# Altium footprint library PcbLib2.PcbLib: 8 footprints
Each footprint in its own frame and in the unit in brackets; x right, y up, seen from the top. Pads: shape width x height; smd on the part's side, far side on the other; paste and mask are expansions set on the pad; w line width, h text height; cw(c..) or ccw(c..) is an arc to the next point about the centre after c.
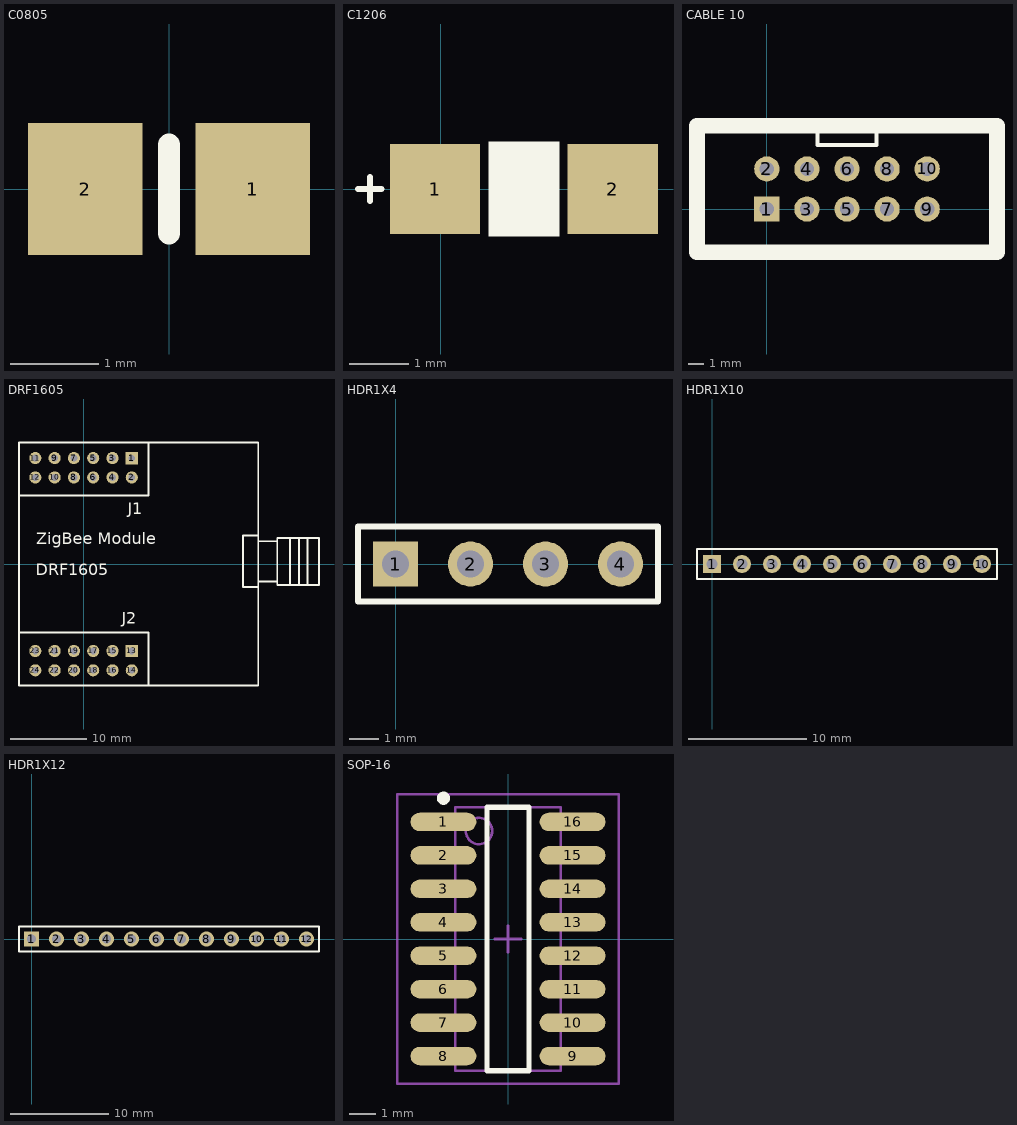
[diagram p0: the footprints below, top view; thin cyan lines are the x and y axes]

## C0805 [mm] "Chip Capacitor; Body 2.0 x 1.2 mm (LxW typ)"
height 1.1
pads (2):
  rect 1.3x1.5 smd: 1(0.95,0) 2(-0.95,0)
Top Overlay:
  lines w0.254: 0,-0.5 0,0.5
3D body "SW3dPS-0805 SMD Capacitor.STEP": height 0.78, standoff 0, extent -1.016,-0.635 0.984,0.615

## C1206 [mil]
pads (2):
  rect 60x60 smd: 1(-3.93,0) 2(114.18,0)
Top Overlay:
  rectangle: 31.49,-31.5 78.74,31.5
  lines w3.94: -55.12,0 -39.37,0 ; -47.19,-7.87 -47.19,7.87
3D body "cap_a.step": height 63.39, standoff 0, extent -7.69,-31.5 117.93,31.5

## CABLE 10 [mm] "Connector; Header; 5x2 Position"
pads (10):
  rect 1.6x1.6 hole 0.9: 1(0,0)
  round 1.6 hole 0.9: 2(0,2.54) 3(2.54,0) 4(2.54,2.54) 5(5.08,0) 6(5.08,2.54) 7(7.62,0) 8(7.62,2.54) 9(10.16,0) 10(10.16,2.54)
Top Overlay:
  lines w0.254: 3.226,5.27 3.226,4.064 5.08,4.064 6.934,4.064 6.934,5.27
  lines w1: -4.42,-2.73 -4.42,5.27 14.58,5.27 14.58,-2.73 -4.42,-2.73
3D body "User Library-Tyco - 5103308-1 (Shrouded Header 2_54mm 10 Pin).step": height 9.86, standoff -3.05, extent -5.08,-3.302 15.24,5.842

## DRF1605 [mm]
pads (24):
  rect 1.6x1.6 hole 0.9: 1(6.35,13.95) 13(6.35,-11.425)
  round 1.6 hole 0.9: 2(6.35,11.425) 3(3.81,13.975) 4(3.81,11.425) 5(1.27,13.975) 6(1.27,11.425) 7(-1.27,13.975) 8(-1.27,11.425) 9(-3.81,13.975) 10(-3.81,11.425) 11(-6.35,13.975) 12(-6.35,11.425) 14(6.35,-13.975) 15(3.81,-11.425) 16(3.81,-13.975) 17(1.27,-11.425) 18(1.27,-13.975) 19(-1.27,-11.425) 20(-1.27,-13.975) 21(-3.81,-11.425) 22(-3.81,-13.975) 23(-6.35,-11.425) 24(-6.35,-13.975)
Top Overlay:
  lines w0.254: -8.5,-8.975 8.525,-8.975 8.525,-15.975 ; -8.5,9.025 8.525,9.025 8.525,16.025 ; 23,-3.025 21,-3.025 21,3.775 23,3.775 ; 27.175,3.475 27.175,-2.7 27.2,-2.725 ; 28.375,3.475 28.375,-2.7 28.4,-2.725 ; 29.5,-2.725 29.5,3.475 ; -8.5,-15.975 23,-15.975 23,16.025 -8.5,16.025 -8.5,-15.975 ; 23,-2.275 23,3.025 25.5,3.025 25.5,-2.275 23,-2.275 ; 25.5,-2.725 25.5,3.475 31,3.475 31,-2.725 25.5,-2.725
  text "J1" at 5.825,6.575 h1.52
  text "J2" at 5,-7.85 h1.52
  text "ZigBee Module" at -6.25,2.65 h1.52
  text "DRF1605" at -6.325,-1.425 h1.52
3D body "User Library-DS1023-2x3S01.STEP": height 8.5, standoff -3, extent -0.25,-15.24 7.87,-10.16
3D body "User Library-DS1023-2x3S01.STEP": height 8.5, standoff -3, extent -7.87,-15.24 0.25,-10.16
3D body "User Library-DS1023-2x3S01.STEP": height 8.5, standoff -3, extent -7.866,10.16 0.254,15.24
3D body "User Library-DS1023-2x3S01.STEP": height 8.5, standoff -3, extent -0.25,10.16 7.87,15.24

## HDR1X4 [mil] "Connector; Header; 4 Position"
pads (4):
  rect 60x60 hole 35.43: 1(0,0)
  round 60 hole 35.43: 2(100,0) 3(200,0) 4(300,0)
Top Overlay:
  lines w7.87: -50,-50 350,-50 350,50 -50,50 -50,-50
3D body "65781.stp": height 345.28, standoff -109.06, extent -50,-50 350,50

## HDR1X10 [mil] "Connector; Header; 10 Position"
pads (10):
  rect 60x60 hole 35.43: 1(0,0)
  round 60 hole 35.43: 2(100,0) 3(200,0) 4(300,0) 5(400,0) 6(500,0) 7(600,0) 8(700,0) 9(800,0) 10(900,0)
Top Overlay:
  lines w7.87: -50,-50 -50,50 25,50 950,50 950,-50 -50,-50
3D body "User Library-PLS-10.STEP": height 336.22, standoff -118.11, extent -50,-50 950,50

## HDR1X12 [mil] "Connector; Header; 12 Position"
pads (12):
  rect 60x60 hole 35.43: 1(0,0)
  round 60 hole 35.43: 2(100,0) 3(200,0) 4(300,0) 5(400,0) 6(500,0) 7(600,0) 8(700,0) 9(800,0) 10(900,0) 11(1000,0) 12(1100,0)
Top Overlay:
  lines w7.87: -50,-50 -50,50 25,50 1150,50 1150,-50 -50,-50
3D body "65800.stp": height 345.28, standoff -109.06, extent -50,-50 1150,50

## SOP-16 [mm] "16-Pin Small Outline Integrated Circuit 1.27 mm Pitch, IPC Low Density"
height 1.75
pads (16):
  oval 2.5x0.7 smd: 1(-2.45,4.445) 2(-2.45,3.175) 3(-2.45,1.905) 4(-2.45,0.635) 5(-2.45,-0.635) 6(-2.45,-1.905) 7(-2.45,-3.175) 8(-2.45,-4.445) 9(2.45,-4.445) 10(2.45,-3.175) 11(2.45,-1.905) 12(2.45,-0.635) 13(2.45,0.635) 14(2.45,1.905) 15(2.45,3.175) 16(2.45,4.445)
Top Overlay:
  circle w0.25: c-2.45,5.345 r0.125
  lines w0.2: -0.8,-5 -0.8,5 0.8,5 0.8,-5 -0.8,-5
Mechanical 13:
  circle w0.1: c-1.1,4.1 r0.5
  lines w0.1: -2,-5 -2,5 2,5 2,-5 -2,-5
Mechanical 15:
  lines w0.1: -0.5,0 0.5,0 ; 0,-0.5 0,0.5 ; -4.2,-5.5 -4.2,5.5 4.2,5.5 4.2,-5.5 -4.2,-5.5
3D body "User Library-SOP-16.step": height 1.45, standoff 0, extent -2.946,-5.004 2.959,4.978